# Altium footprint library CAPC1810X060.PcbLib: 3 footprints
Each footprint in its own frame and in the unit in brackets; x right, y up, seen from the top. Pads: shape width x height; smd on the part's side, far side on the other; paste and mask are expansions set on the pad; w line width, h text height; cw(c..) or ccw(c..) is an arc to the next point about the centre after c.
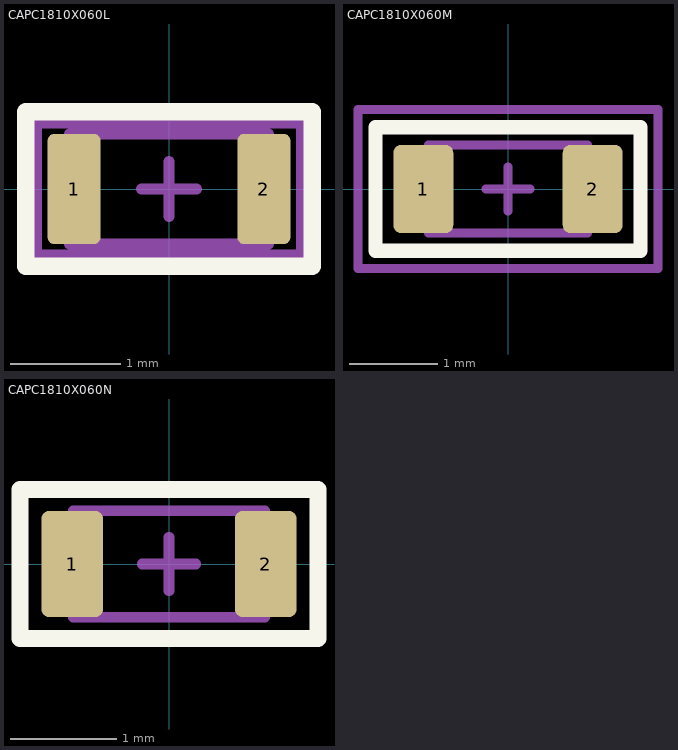
[diagram p0: the footprints below, top view; thin cyan lines are the x and y axes]

## CAPC1810X060L [mm] "Capacitors, Chip, Non-polarized"
height 0.65
pads (2):
  rrect25% 0.48x1 smd: 1(-0.86,0) 2(0.86,0)
Top Overlay:
  lines w0.16: -1.3,-0.7 1.3,-0.7 1.3,0.7 -1.3,0.7 -1.3,-0.7
Top Component Center:
  lines w0.1: -0.25,0 0.25,0 ; 0,-0.25 0,0.25
Top Courtyard:
  lines w0.1: -1.2,-0.6 1.2,-0.6 1.2,0.6 -1.2,0.6 -1.2,-0.6
Top Assembly:
  lines w0.1: -0.9,-0.5 0.9,-0.5 0.9,0.5 -0.9,0.5 -0.9,-0.5
  text ".Designator" at 0,0 h1
3D body "CAPC1810X060L.STEP": height 0.6, standoff 0, extent -0.9,-0.5 0.9,0.5

## CAPC1810X060M [mm] "Capacitors, Chip, Non-polarized"
height 0.65
pads (2):
  rrect25% 0.68x1 smd: 1(-0.96,0) 2(0.96,0)
Top Overlay:
  lines w0.16: -1.5,-0.7 1.5,-0.7 1.5,0.7 -1.5,0.7 -1.5,-0.7
Top Component Center:
  lines w0.1: -0.25,0 0.25,0 ; 0,-0.25 0,0.25
Top Courtyard:
  lines w0.1: -1.7,-0.9 1.7,-0.9 1.7,0.9 -1.7,0.9 -1.7,-0.9
Top Assembly:
  lines w0.1: -0.9,-0.5 0.9,-0.5 0.9,0.5 -0.9,0.5 -0.9,-0.5
  text ".Designator" at 0,0 h1
3D body "CAPC1810X060M.STEP": height 0.6, standoff 0, extent -0.9,-0.5 0.9,0.5

## CAPC1810X060N [mm] "Capacitors, Chip, Non-polarized"
height 0.65
pads (2):
  rrect25% 0.58x1 smd: 1(-0.91,0) 2(0.91,0)
Top Overlay:
  lines w0.16: -1.4,-0.7 1.4,-0.7 1.4,0.7 -1.4,0.7 -1.4,-0.7
Top Component Center:
  lines w0.1: -0.25,0 0.25,0 ; 0,-0.25 0,0.25
Top Courtyard:
  lines w0.1: -1.4,-0.7 1.4,-0.7 1.4,0.7 -1.4,0.7 -1.4,-0.7
Top Assembly:
  lines w0.1: -0.9,-0.5 0.9,-0.5 0.9,0.5 -0.9,0.5 -0.9,-0.5
  text ".Designator" at 0,0 h1
3D body "CAPC1810X060N.STEP": height 0.6, standoff 0, extent -0.9,-0.5 0.9,0.5